# Altium schematic symbol library Polarizer.SchLib: 4 symbols
Pins are listed as number, name and electrical type; pins without a type are passive.

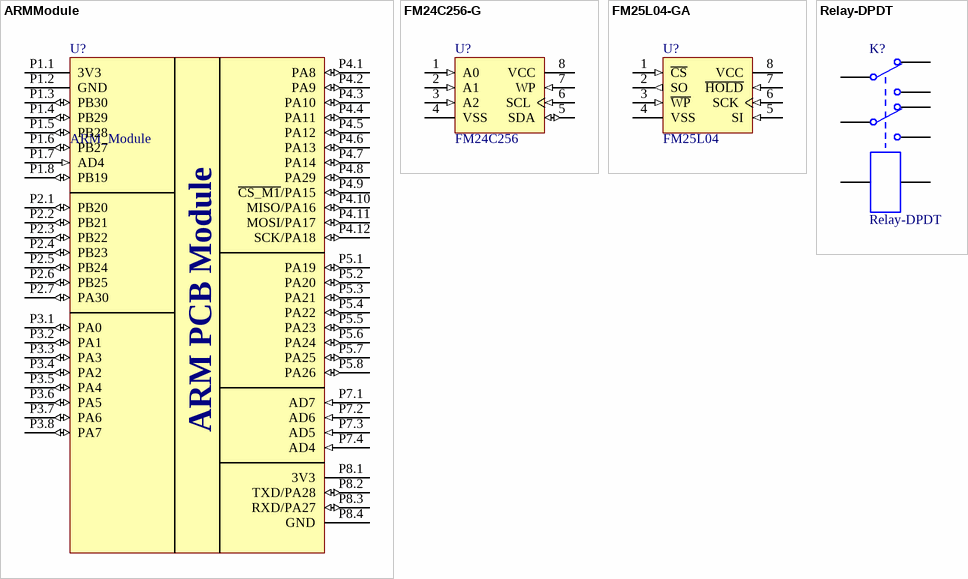
[diagram p0: symbols ARMModule to Relay-DPDT]

## ARMModule
designator U?, comment ARM_Module
ARM PCB Module; Published: 5-Jan-2004; DatasheetDocument: Nov-2003; Publisher: Altium Limited
footprint ARM_Module
pins: P1.1 3V3 (power), P1.2 GND (power), P1.3 PB30 (io), P1.4 PB29 (io), P1.5 PB28 (io), P1.6 PB27 (io), P1.7 AD4 (in), P1.8 PB19 (io), P2.1 PB20 (io), P2.2 PB21 (io), P2.3 PB22 (io), P2.4 PB23 (io), P2.5 PB24 (io), P2.6 PB25 (io), P2.7 PA30 (io), P3.1 PA0 (io), P3.2 PA1 (io), P3.3 PA3 (io), P3.4 PA2 (io), P3.5 PA4 (io), P3.6 PA5 (io), P3.7 PA6 (io), P3.8 PA7 (io), P4.1 PA8 (io), P4.2 PA9 (io), P4.3 PA10 (io), P4.4 PA11 (io), P4.5 PA12 (io), P4.6 PA13 (io), P4.7 PA14 (io), P4.8 PA29 (io), P4.9 ~{CS_M1}/PA15 (io), P4.10 MISO/PA16 (io), P4.11 MOSI/PA17 (io), P4.12 SCK/PA18 (io), P5.1 PA19 (io), P5.2 PA20 (io), P5.3 PA21 (io), P5.4 PA22 (io), P5.5 PA23 (io), P5.6 PA24 (io), P5.7 PA25 (io), P5.8 PA26 (io), P7.1 AD7 (in), P7.2 AD6 (in), P7.3 AD5 (in), P7.4 AD4 (in), P8.1 3V3 (power), P8.2 TXD/PA28 (io), P8.3 RXD/PA27 (io), P8.4 GND (power)

## FM24C256-G
designator U?, comment FM24C256
256Kb FRAM 5V Memory with  I2C Bus Interface; Published: 5-Jan-2004; DatasheetDocument: Nov-2003; Publisher: Altium Limited
footprint SO8_MW/SO8_Mn (Small Outline; 8 Leads; Body Width 5.2 mm; Pitch 1.27 mm)
pcadlib SO8_MW/SO8_MN (Small Outline; 8 Leads; Body Width 5.2 mm; Pitch 1.27 mm)
pins: 1 A0 (in), 2 A1 (in), 3 A2 (in), 4 VSS (power), 5 SDA (io), 6 SCL (in), 7 WP (in), 8 VCC (power)

## FM25L04-GA
designator U?, comment FM25L04
4Kb FRAM 3V Memory with  10 MHz SPI Bus Interface; Published: 5-Jan-2004; DatasheetDocument: Nov-2003; Publisher: Altium Limited
footprint SO8_MW/SO8_Mn (Small Outline; 8 Leads; Body Width 5.2 mm; Pitch 1.27 mm)
pcadlib SO8_MW/SO8_MN (Small Outline; 8 Leads; Body Width 5.2 mm; Pitch 1.27 mm)
pins: 1 ~{CS} (in), 2 SO (out) "Serial Output", 3 ~{WP} (in) "Serial Output", 4 VSS (power) "Serial Output", 5 SI (in) "Serial Input", 6 SCK (in) "Serial Input", 7 ~{HOLD} (in) "Serial Input", 8 VCC (power) "Serial Input"

## Relay-DPDT
designator K?
Dual-Pole Dual-Throw Relay; Published: 24-Mar-1999; LatestRevisionDate: 17-Jul-2002; LatestRevisionNote: Re-released for DXP Platform.; PackageReference: DIP-P8; Publisher: Altium Limited
simulation model DPDTRELAY (Spice Subcircuit)
footprint G2R-2 (Omron DPDT Relay)
pins: 1, 2, 3, 4, 5, 6, 7, 8